# Altium schematic symbol library RP73PF1E34KBTD.SchLib: 1 symbol
Pins are listed as number, name and electrical type; pins without a type are passive.

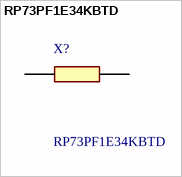
[diagram p0: symbol RP73PF1E34KBTD]

## RP73PF1E34KBTD
designator X?
34 kOhms +/-0.1% 0.1W, 1/10W Chip Resistor 0402 (1005 Metric) Thin Film; Manufacturer_Name: TE Connectivity; Geometry.Height: 0.35mm; Manufacturer_Part_Number: RP73PF1E34KBTD; Mouser Part Number: *; Mouser Price/Stock: *; Arrow Part Number: *; Arrow Price/Stock: *; Datasheet Link: https://www.te.com/commerce/DocumentDelivery/DDEController?Action=showdoc&DocId=Customer+Drawing%7F2176307%7FA%7Fpdf%7FEnglish%7FENG_CD_2176307_A.pdf%7F4-2176307-3
footprint RESC1005X35N
pins: 1, 2